# EAGLE library part HMC5883L (library zz-upenn 2)
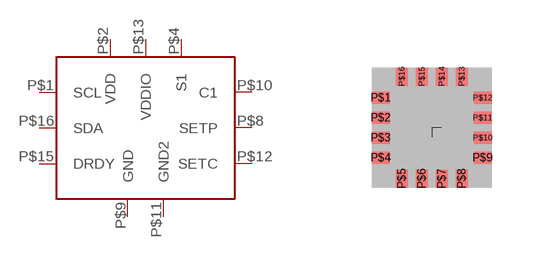
[diagram p19: symbol with the pads of LCC-16; footprint LCC-16]

Designator prefix -

## HMC5883L  [LCC-16]
P$1  SCL
P$2  VDD
P$4  S1
P$8  SETP
P$9  GND
P$10  C1
P$11  GND2
P$12  SETC
P$13  VDDIO
P$15  DRDY
P$16  SDA

## Footprint LCC-16 (pad centres in mm)
smd 0.45 x 0.3: P$1 -1.275,0.75; P$2 -1.275,0.25; P$3 -1.275,-0.25; P$4 -1.275,-0.75; P$9 1.275,-0.75; P$10 1.275,-0.25; P$11 1.275,0.25; P$12 1.275,0.75
smd 0.3 x 0.45: P$5 -0.75,-1.275; P$6 -0.25,-1.275; P$7 0.25,-1.275; P$8 0.75,-1.275; P$13 0.75,1.275; P$14 0.25,1.275; P$15 -0.25,1.275; P$16 -0.75,1.275